# EAGLE library part MCP25625 (library _MCP25625)
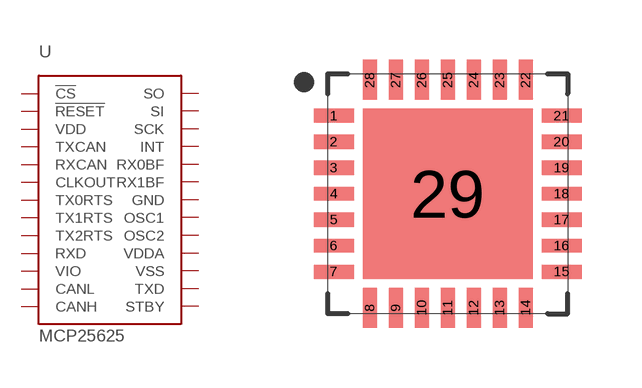
[diagram p0: symbol with the pads of QFN28_6X6; footprint QFN28_6X6]

Designator prefix U

## MCP25625  [QFN28_6X6]
1  !CS
2  !RESET
3  VDD
4  TXCAN
5  RXCAN
6  CLKOUT
7  TX0RTS
8  TX1RTS
9  TX2RTS
10  RXD
11  VIO
12  CANL
13  CANH
15  STBY
16  TXD
18  VSS
19  VDDA
20  OSC2
21  OSC1
22  GND
23  RX1BF
24  RX0BF
25  INT
26  SCK
27  SI
28  SO
29  GND

## Footprint QFN28_6X6 (pad centres in mm)
28-Lead Plastic Quad Flat, No Lead Package (ML) - 6x6 mm Body [QFN] with 0.55 mm Contact Lenght
smd 1 x 0.35: 1 -2.85,1.95; 2 -2.85,1.3; 3 -2.85,0.65; 4 -2.85,0; 5 -2.85,-0.65; 6 -2.85,-1.3; 7 -2.85,-1.95; 15 2.85,-1.95; 16 2.85,-1.3; 17 2.85,-0.65; 18 2.85,0; 19 2.85,0.65; 20 2.85,1.3; 21 2.85,1.95
smd 0.35 x 1: 8 -1.95,-2.85; 9 -1.3,-2.85; 10 -0.65,-2.85; 11 0,-2.85; 12 0.65,-2.85; 13 1.3,-2.85; 14 1.95,-2.85; 22 1.95,2.85; 23 1.3,2.85; 24 0.65,2.85; 25 0,2.85; 26 -0.65,2.85; 27 -1.3,2.85; 28 -1.95,2.85
smd 4.25 x 4.25: 29 0,0